# Altium footprint library Crystal.PcbLib: 185 footprints (part 4 of 12)
Each footprint in its own frame and in the unit in brackets; x right, y up, seen from the top. Pads: shape width x height; smd on the part's side, far side on the other; paste and mask are expansions set on the pad; w line width, h text height; cw(c..) or ccw(c..) is an arc to the next point about the centre after c.
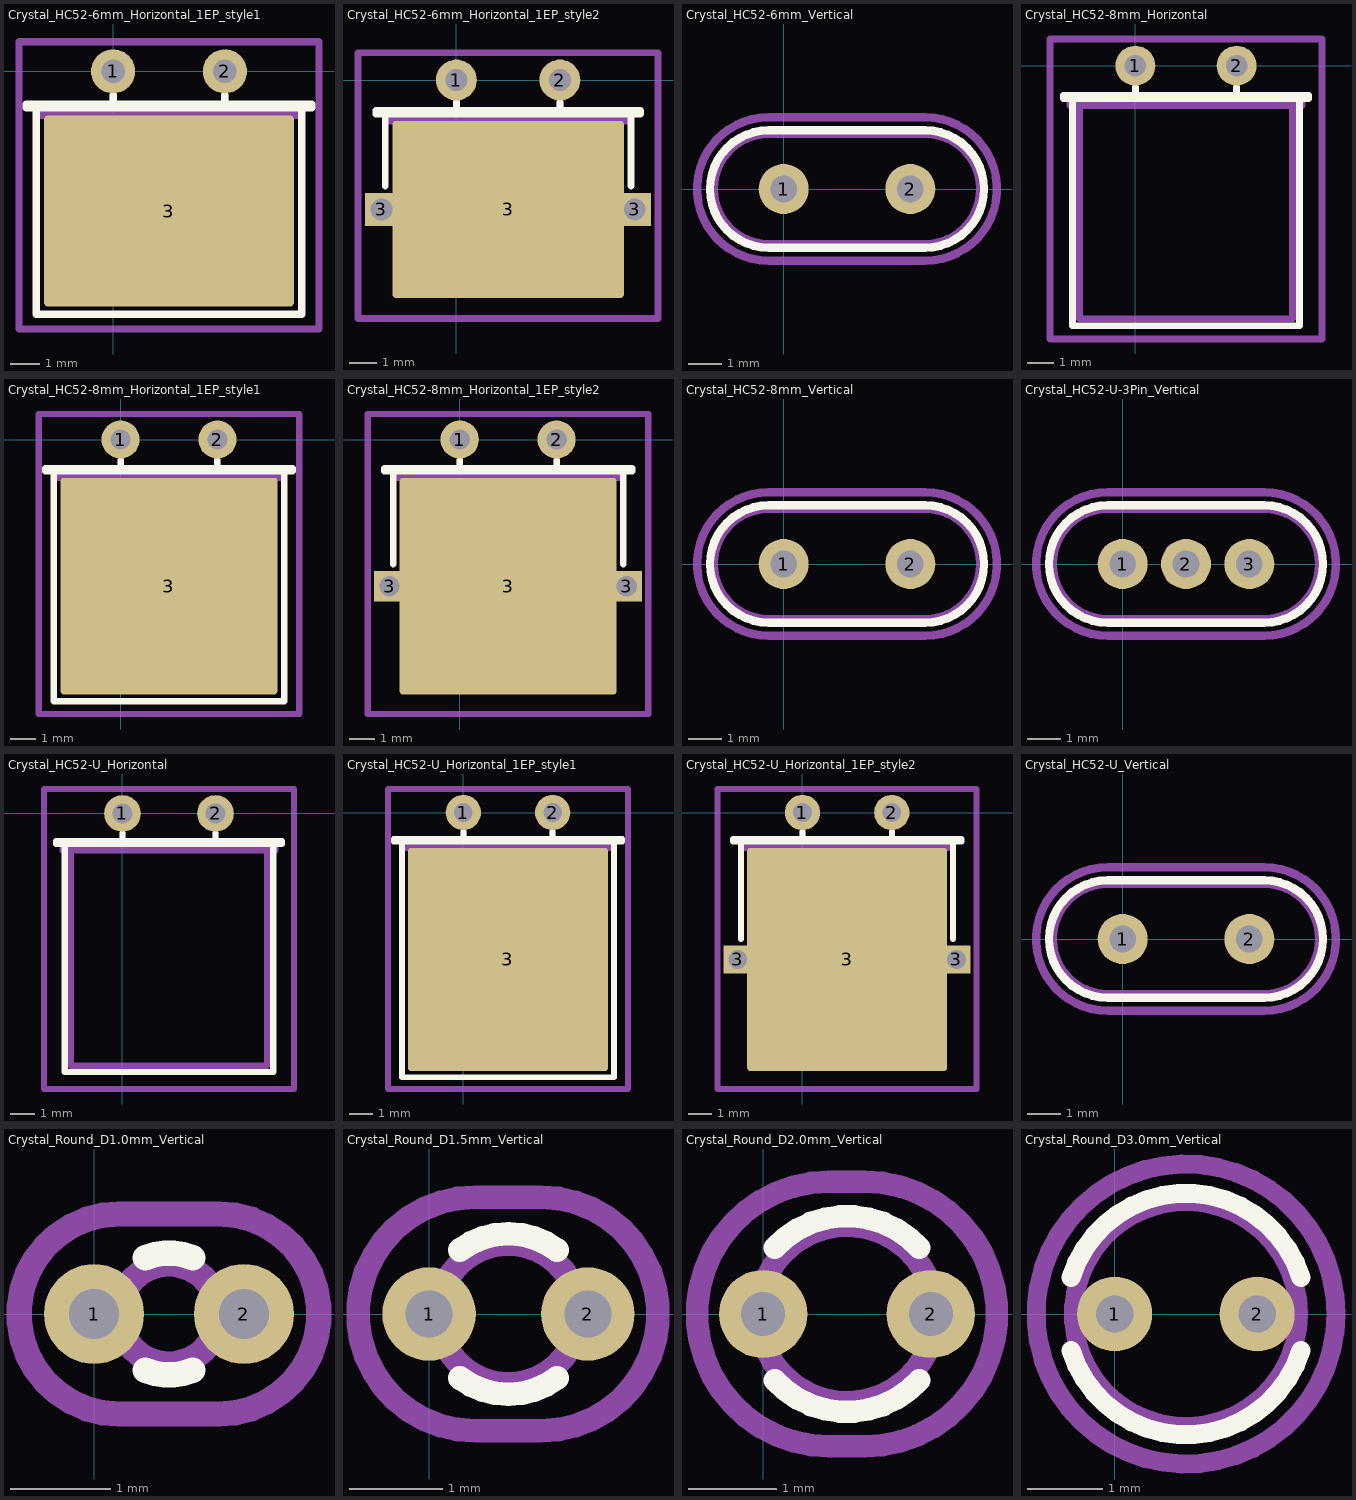
[diagram p3: the footprints below, top view; thin cyan lines are the x and y axes]

## Crystal_HC52-6mm_Horizontal_1EP_style1 [mm]
pads (3):
  round 1.5 hole 0.8: 1(0,0) 2(3.8,0)
  rrect4% 8.5x6.5 smd: 3(1.9,-4.75)
F.SilkS:
  lines w0.254: 0,-1.24 0,-0.81 ; 3.8,-1.24 3.8,-0.81 ; -2.96,-1.24 6.76,-1.24 6.76,-1.12 -2.96,-1.12 -2.96,-1.24 ; -2.61,-8.26 6.41,-8.26 6.41,-1.24 -2.61,-1.24 -2.61,-8.26
Top Assembly:
  lines w0.254: 0,-1.5 0,-0.75 0,0 ; 3.8,-1.5 3.8,-0.75 3.8,0 ; -2.45,-1.5 6.25,-1.5 6.25,-1.4 -2.45,-1.4 -2.45,-1.5 ; -2.1,-7.5 5.9,-7.5 5.9,-1.5 -2.1,-1.5 -2.1,-7.5
  text "'.Designator'" at 2.74,-8.903 h1
Top Courtyard:
  lines w0.254: -3.2,-8.76 7,-8.76 7,1 -3.2,1 -3.2,-8.76
Top Designator:
  text ".Designator" at -5.718,-4.471 h1.52

## Crystal_HC52-6mm_Horizontal_1EP_style2 [mm]
pads (5):
  round 1.5 hole 0.8: 1(0,0) 2(3.8,0)
  rect 1.2x1.2 hole 0.8: 3(-2.75,-4.75) 3(6.55,-4.75)
  rrect4% 8.5x6.5 smd: 3(1.9,-4.75)
F.SilkS:
  lines w0.254: -2.61,-3.89 -2.61,-1.24 6.41,-1.24 6.41,-3.89 ; 0,-1.24 0,-0.81 ; 3.8,-1.24 3.8,-0.81 ; -2.96,-1.24 6.76,-1.24 6.76,-1.12 -2.96,-1.12 -2.96,-1.24
Top Assembly:
  lines w0.254: -2.75,-4.75 6.55,-4.75 ; 0,-1.5 0,-0.75 0,0 ; 3.8,-1.5 3.8,-0.75 3.8,0 ; -2.45,-1.5 6.25,-1.5 6.25,-1.4 -2.45,-1.4 -2.45,-1.5 ; -2.1,-7.5 5.9,-7.5 5.9,-1.5 -2.1,-1.5 -2.1,-7.5
  text "'.Designator'" at 2.74,-8.903 h1
Top Courtyard:
  lines w0.254: -3.61,-8.76 7.4,-8.76 7.4,1 -3.61,1 -3.61,-8.76
Top Designator:
  text ".Designator" at -5.723,-4.471 h1.52

## Crystal_HC52-6mm_Vertical [mm]
pads (2):
  round 1.5 hole 0.8: 1(0,0) 2(3.8,0)
F.SilkS:
  lines w0.254: -0.45,-1.76 cw(c-0.45,0) -0.45,1.76 4.25,1.76 cw(c4.25,0) 4.25,-1.76 -0.45,-1.76
Top Assembly:
  lines w0.254: -0.45,-1.65 cw(c-0.45,0) -0.45,1.65 4.25,1.65 cw(c4.25,0) 4.25,-1.65 -0.45,-1.65
  text "'.Designator'" at -2.147,-0.84 h1
Top Courtyard:
  lines w0.254: -0.45,-2.15 cw(c-0.45,0) -0.45,2.15 4.25,2.15 cw(c4.25,0) 4.25,-2.15 -0.45,-2.15
Top Designator:
  text ".Designator" at -5.718,-0.508 h1.52

## Crystal_HC52-8mm_Horizontal [mm]
pads (2):
  round 1.5 hole 0.8: 1(0,0) 2(3.8,0)
F.SilkS:
  lines w0.254: 0,-1.24 0,-0.81 ; 3.8,-1.24 3.8,-0.81 ; -2.71,-1.24 6.51,-1.24 6.51,-1.12 -2.71,-1.12 -2.71,-1.24 ; -2.36,-9.76 6.16,-9.76 6.16,-1.24 -2.36,-1.24 -2.36,-9.76
Top Assembly:
  lines w0.254: 0,-1.5 0,-0.75 0,0 ; 3.8,-1.5 3.8,-0.75 3.8,0 ; -2.45,-1.5 6.25,-1.5 6.25,-1.4 -2.45,-1.4 -2.45,-1.5 ; -2.1,-9.5 5.9,-9.5 5.9,-1.5 -2.1,-1.5 -2.1,-9.5
  text "'.Designator'" at 2.74,-9.803 h1
Top Courtyard:
  lines w0.254: -3.2,-10.26 7,-10.26 7,1 -3.2,1 -3.2,-10.26
Top Designator:
  text ".Designator" at -5.718,-5.138 h1.52

## Crystal_HC52-8mm_Horizontal_1EP_style1 [mm]
pads (3):
  round 1.5 hole 0.8: 1(0,0) 2(3.8,0)
  rrect3% 8.5x8.5 smd: 3(1.9,-5.75)
F.SilkS:
  lines w0.254: 0,-1.24 0,-0.81 ; 3.8,-1.24 3.8,-0.81 ; -2.96,-1.24 6.76,-1.24 6.76,-1.12 -2.96,-1.12 -2.96,-1.24 ; -2.61,-10.26 6.41,-10.26 6.41,-1.24 -2.61,-1.24 -2.61,-10.26
Top Assembly:
  lines w0.254: 0,-1.5 0,-0.75 0,0 ; 3.8,-1.5 3.8,-0.75 3.8,0 ; -2.45,-1.5 6.25,-1.5 6.25,-1.4 -2.45,-1.4 -2.45,-1.5 ; -2.1,-9.5 5.9,-9.5 5.9,-1.5 -2.1,-1.5 -2.1,-9.5
  text "'.Designator'" at 2.74,-10.103 h1
Top Courtyard:
  lines w0.254: -3.2,-10.76 7,-10.76 7,1 -3.2,1 -3.2,-10.76
Top Designator:
  text ".Designator" at -5.718,-5.388 h1.52

## Crystal_HC52-8mm_Horizontal_1EP_style2 [mm]
pads (5):
  round 1.5 hole 0.8: 1(0,0) 2(3.8,0)
  rect 1.2x1.2 hole 0.8: 3(-2.75,-5.75) 3(6.55,-5.75)
  rrect3% 8.5x8.5 smd: 3(1.9,-5.75)
F.SilkS:
  lines w0.254: -2.61,-4.89 -2.61,-1.24 6.41,-1.24 6.41,-4.89 ; 0,-1.24 0,-0.81 ; 3.8,-1.24 3.8,-0.81 ; -2.96,-1.24 6.76,-1.24 6.76,-1.12 -2.96,-1.12 -2.96,-1.24
Top Assembly:
  lines w0.254: -2.75,-5.75 6.55,-5.75 ; 0,-1.5 0,-0.75 0,0 ; 3.8,-1.5 3.8,-0.75 3.8,0 ; -2.45,-1.5 6.25,-1.5 6.25,-1.4 -2.45,-1.4 -2.45,-1.5 ; -2.1,-9.5 5.9,-9.5 5.9,-1.5 -2.1,-1.5 -2.1,-9.5
  text "'.Designator'" at 2.74,-10.103 h1
Top Courtyard:
  lines w0.254: -3.61,-10.76 7.4,-10.76 7.4,1 -3.61,1 -3.61,-10.76
Top Designator:
  text ".Designator" at -5.723,-5.388 h1.52

## Crystal_HC52-8mm_Vertical [mm]
pads (2):
  round 1.5 hole 0.8: 1(0,0) 2(3.8,0)
F.SilkS:
  lines w0.254: -0.45,-1.76 cw(c-0.45,0) -0.45,1.76 4.25,1.76 cw(c4.25,0) 4.25,-1.76 -0.45,-1.76
Top Assembly:
  lines w0.254: -0.45,-1.65 cw(c-0.45,0) -0.45,1.65 4.25,1.65 cw(c4.25,0) 4.25,-1.65 -0.45,-1.65
  text "'.Designator'" at -2.147,-0.84 h1
Top Courtyard:
  lines w0.254: -0.45,-2.15 cw(c-0.45,0) -0.45,2.15 4.25,2.15 cw(c4.25,0) 4.25,-2.15 -0.45,-2.15
Top Designator:
  text ".Designator" at -5.718,-0.508 h1.52

## Crystal_HC52-U-3Pin_Vertical [mm]
pads (3):
  round 1.5 hole 0.8: 1(0,0) 2(1.9,0) 3(3.8,0)
F.SilkS:
  lines w0.254: -0.45,-1.76 cw(c-0.45,0) -0.45,1.76 4.25,1.76 cw(c4.25,0) 4.25,-1.76 -0.45,-1.76
Top Assembly:
  lines w0.254: -0.45,-1.65 cw(c-0.45,0) -0.45,1.65 4.25,1.65 cw(c4.25,0) 4.25,-1.65 -0.45,-1.65
  text "'.Designator'" at -2.147,-0.84 h1
Top Courtyard:
  lines w0.254: -0.45,-2.15 cw(c-0.45,0) -0.45,2.15 4.25,2.15 cw(c4.25,0) 4.25,-2.15 -0.45,-2.15
Top Designator:
  text ".Designator" at -5.718,-0.508 h1.52

## Crystal_HC52-U_Horizontal [mm]
pads (2):
  round 1.5 hole 0.8: 1(0,0) 2(3.8,0)
F.SilkS:
  lines w0.254: 0,-1.24 0,-0.81 ; 3.8,-1.24 3.8,-0.81 ; -2.71,-1.24 -2.71,-1.12 6.51,-1.12 6.51,-1.24 -2.71,-1.24 ; -2.36,-10.56 -2.36,-1.24 6.16,-1.24 6.16,-10.56 -2.36,-10.56
Top Assembly:
  lines w0.254: 0,-1.5 0,-0.75 0,0 ; 3.8,-1.5 3.8,-0.75 3.8,0 ; -2.45,-1.5 -2.45,-1.4 6.25,-1.4 6.25,-1.5 -2.45,-1.5 ; -2.1,-10.3 -2.1,-1.5 5.9,-1.5 5.9,-10.3 -2.1,-10.3
  text "'.Designator'" at 2.74,-10.397 h1
Top Courtyard:
  lines w0.254: -3.2,-11.25 -3.2,1 7,1 7,-11.25 -3.2,-11.25
Top Designator:
  text ".Designator" at -5.718,-5.633 h1.52

## Crystal_HC52-U_Horizontal_1EP_style1 [mm]
pads (3):
  round 1.5 hole 0.8: 1(0,0) 2(3.8,0)
  rrect3% 8.5x9.5 smd: 3(1.9,-6.25)
F.SilkS:
  lines w0.254: 0,-1.24 0,-0.81 ; 3.8,-1.24 3.8,-0.81 ; -2.96,-1.24 -2.96,-1.12 6.76,-1.12 6.76,-1.24 -2.96,-1.24 ; -2.61,-11.26 -2.61,-1.24 6.41,-1.24 6.41,-11.26 -2.61,-11.26
Top Assembly:
  lines w0.254: 0,-1.5 0,-0.75 0,0 ; 3.8,-1.5 3.8,-0.75 3.8,0 ; -2.45,-1.5 -2.45,-1.4 6.25,-1.4 6.25,-1.5 -2.45,-1.5 ; -2.1,-10.3 -2.1,-1.5 5.9,-1.5 5.9,-10.3 -2.1,-10.3
  text "'.Designator'" at 2.74,-10.703 h1
Top Courtyard:
  lines w0.254: -3.2,-11.76 -3.2,1 7,1 7,-11.76 -3.2,-11.76
Top Designator:
  text ".Designator" at -5.718,-5.888 h1.52

## Crystal_HC52-U_Horizontal_1EP_style2 [mm]
pads (5):
  round 1.5 hole 0.8: 1(0,0) 2(3.8,0)
  rect 1.2x1.2 hole 0.8: 3(-2.75,-6.25) 3(6.55,-6.25)
  rrect3% 8.5x9.5 smd: 3(1.9,-6.25)
F.SilkS:
  lines w0.254: -2.61,-5.39 -2.61,-1.24 6.41,-1.24 6.41,-5.39 ; 0,-1.24 0,-0.81 ; 3.8,-1.24 3.8,-0.81 ; -2.96,-1.24 6.76,-1.24 6.76,-1.12 -2.96,-1.12 -2.96,-1.24
Top Assembly:
  lines w0.254: -2.75,-6.25 6.55,-6.25 ; 0,-1.5 0,-0.75 0,0 ; 3.8,-1.5 3.8,-0.75 3.8,0 ; -2.45,-1.5 6.25,-1.5 6.25,-1.4 -2.45,-1.4 -2.45,-1.5 ; -2.1,-10.3 5.9,-10.3 5.9,-1.5 -2.1,-1.5 -2.1,-10.3
  text "'.Designator'" at 2.74,-10.703 h1
Top Courtyard:
  lines w0.254: -3.61,-11.76 7.4,-11.76 7.4,1 -3.61,1 -3.61,-11.76
Top Designator:
  text ".Designator" at -5.723,-5.888 h1.52

## Crystal_HC52-U_Vertical [mm]
pads (2):
  round 1.5 hole 0.8: 1(0,0) 2(3.8,0)
F.SilkS:
  lines w0.254: -0.45,-1.76 cw(c-0.45,0) -0.45,1.76 4.25,1.76 cw(c4.25,0) 4.25,-1.76 -0.45,-1.76
Top Assembly:
  lines w0.254: -0.45,-1.65 cw(c-0.45,0) -0.45,1.65 4.25,1.65 cw(c4.25,0) 4.25,-1.65 -0.45,-1.65
  text "'.Designator'" at -2.147,-0.84 h1
Top Courtyard:
  lines w0.254: -0.45,-2.15 cw(c-0.45,0) -0.45,2.15 4.25,2.15 cw(c4.25,0) 4.25,-2.15 -0.45,-2.15
Top Designator:
  text ".Designator" at -5.718,-0.508 h1.52

## Crystal_Round_D1.0mm_Vertical [mm]
pads (2):
  round 1 hole 0.5: 1(0,0) 2(1.5,0)
F.SilkS:
  lines w0.254: 0.512,-0.562 ccw(c0.75,0.004) 0.988,-0.562 ; 0.512,0.562 cw(c0.75,-0.004) 0.988,0.562
Top Assembly:
  circle w0.254: c0.75,0 r0.5
  text "'.Designator'" at -0.264,-0.213 h0.25
Top Courtyard:
  lines w0.254: 0.25,-1 cw(c0.25,0) 0.25,1 1.25,1 cw(c1.25,0) 1.25,-1 0.25,-1
Top Designator:
  text ".Designator" at -6.868,-0.508 h1.52

## Crystal_Round_D1.5mm_Vertical [mm]
pads (2):
  round 1 hole 0.5: 1(0,0) 2(1.7,0)
F.SilkS:
  lines w0.254: 0.33,-0.685 ccw(c0.85,0) 1.37,-0.685 ; 0.33,0.685 cw(c0.85,0) 1.37,0.685
Top Assembly:
  circle w0.254: c0.85,0 r0.75
  text "'.Designator'" at -0.691,-0.322 h0.38
Top Courtyard:
  lines w0.254: 0.49,-1.25 cw(c0.49,0) 0.49,1.25 1.2,1.25 cw(c1.2,0) 1.2,-1.25 0.49,-1.25
Top Designator:
  text ".Designator" at -6.773,-0.508 h1.52

## Crystal_Round_D2.0mm_Vertical [mm]
pads (2):
  round 1 hole 0.5: 1(0,0) 2(1.9,0)
F.SilkS:
  lines w0.254: 0.131,-0.749 ccw(c0.95,0) 1.769,-0.749 ; 0.131,0.749 cw(c0.95,0) 1.769,0.749
Top Assembly:
  circle w0.254: c0.95,0 r1
  text "'.Designator'" at -1.078,-0.425 h0.5
Top Courtyard:
  lines w0.254: 0.75,-1.5 cw(c0.75,0) 0.75,1.5 1.15,1.5 cw(c1.15,0) 1.15,-1.5 0.75,-1.5
Top Designator:
  text ".Designator" at -6.748,-0.508 h1.52

## Crystal_Round_D3.0mm_Vertical [mm]
pads (2):
  round 1 hole 0.5: 1(0,0) 2(1.9,0)
F.SilkS:
  lines w0.254: -0.585,-0.485 ccw(c0.95,0) 2.485,-0.485 ; -0.585,0.485 cw(c0.95,0) 2.485,0.485
Top Assembly:
  circle w0.254: c0.95,0 r1.5
  text "'.Designator'" at -2.083,-0.628 h0.75
Top Courtyard:
  circle w0.254: c0.95,0 r2
Top Designator:
  text ".Designator" at -6.778,-0.508 h1.52